# Altium footprint library CN_B8B-XH-A.PcbLib: 1 footprints
Each footprint in its own frame and in the unit in brackets; x right, y up, seen from the top. Pads: shape width x height; smd on the part's side, far side on the other; paste and mask are expansions set on the pad; w line width, h text height; cw(c..) or ccw(c..) is an arc to the next point about the centre after c.
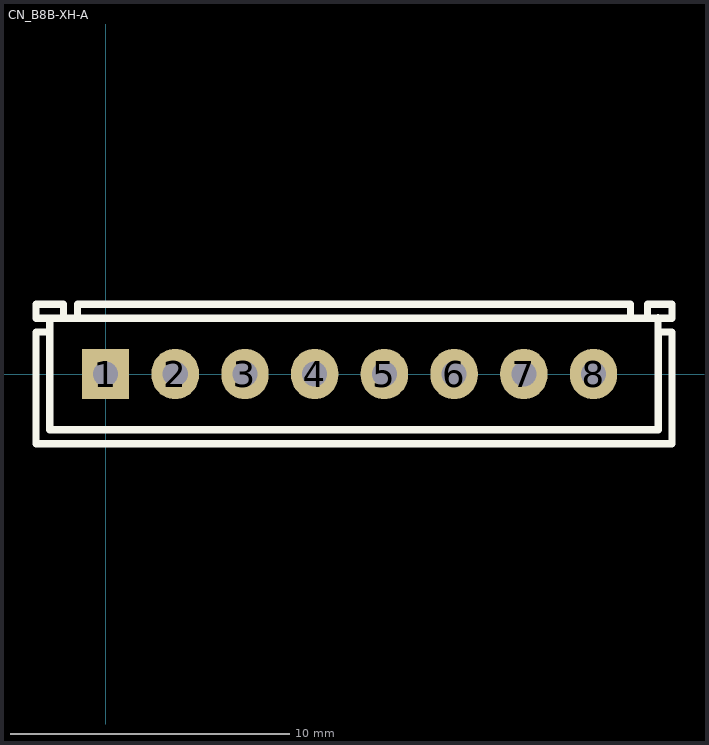
[diagram p0: the footprint, top view; thin cyan lines are the x and y axes]

## CN_B8B-XH-A [mm] "8p. PCB connector 180°"
pads (8):
  rect 1.7x1.8 hole 0.9: 1(0,0)
  oval 1.7x1.8 hole 0.9: 2(2.5,0) 3(5,0) 4(7.5,0) 5(10,0) 6(12.5,0) 7(15,0) 8(17.5,0)
Top Overlay:
  lines w0.254: 19.272,2 14,2 18.82,2 18.82,2.5 -1,2.5 -1,2 -1.5,2 -1.5,2.5 -2.5,2.5 -2.5,2 -2,2 ; 19.431,2 19.431,2.5 20.32,2.5 20.32,2 14.5,2 -2,2 ; 19.812,1.524 19.812,2.024 ; -2,2 -2,1.5 -2.5,1.5 -2.5,-2.5 20.32,-2.5 20.32,1.5 19.82,1.5 19.82,-2 -2,-2 -2,2
3D body: height 7, standoff -3.4, extent -2.494,-3.394 19.906,2.706